# Altium footprint library gini_base_pcb.PCBLIB: 175 footprints (part 7 of 11)
Each footprint in its own frame and in the unit in brackets; x right, y up, seen from the top. Pads: shape width x height; smd on the part's side, far side on the other; paste and mask are expansions set on the pad; w line width, h text height; cw(c..) or ccw(c..) is an arc to the next point about the centre after c.
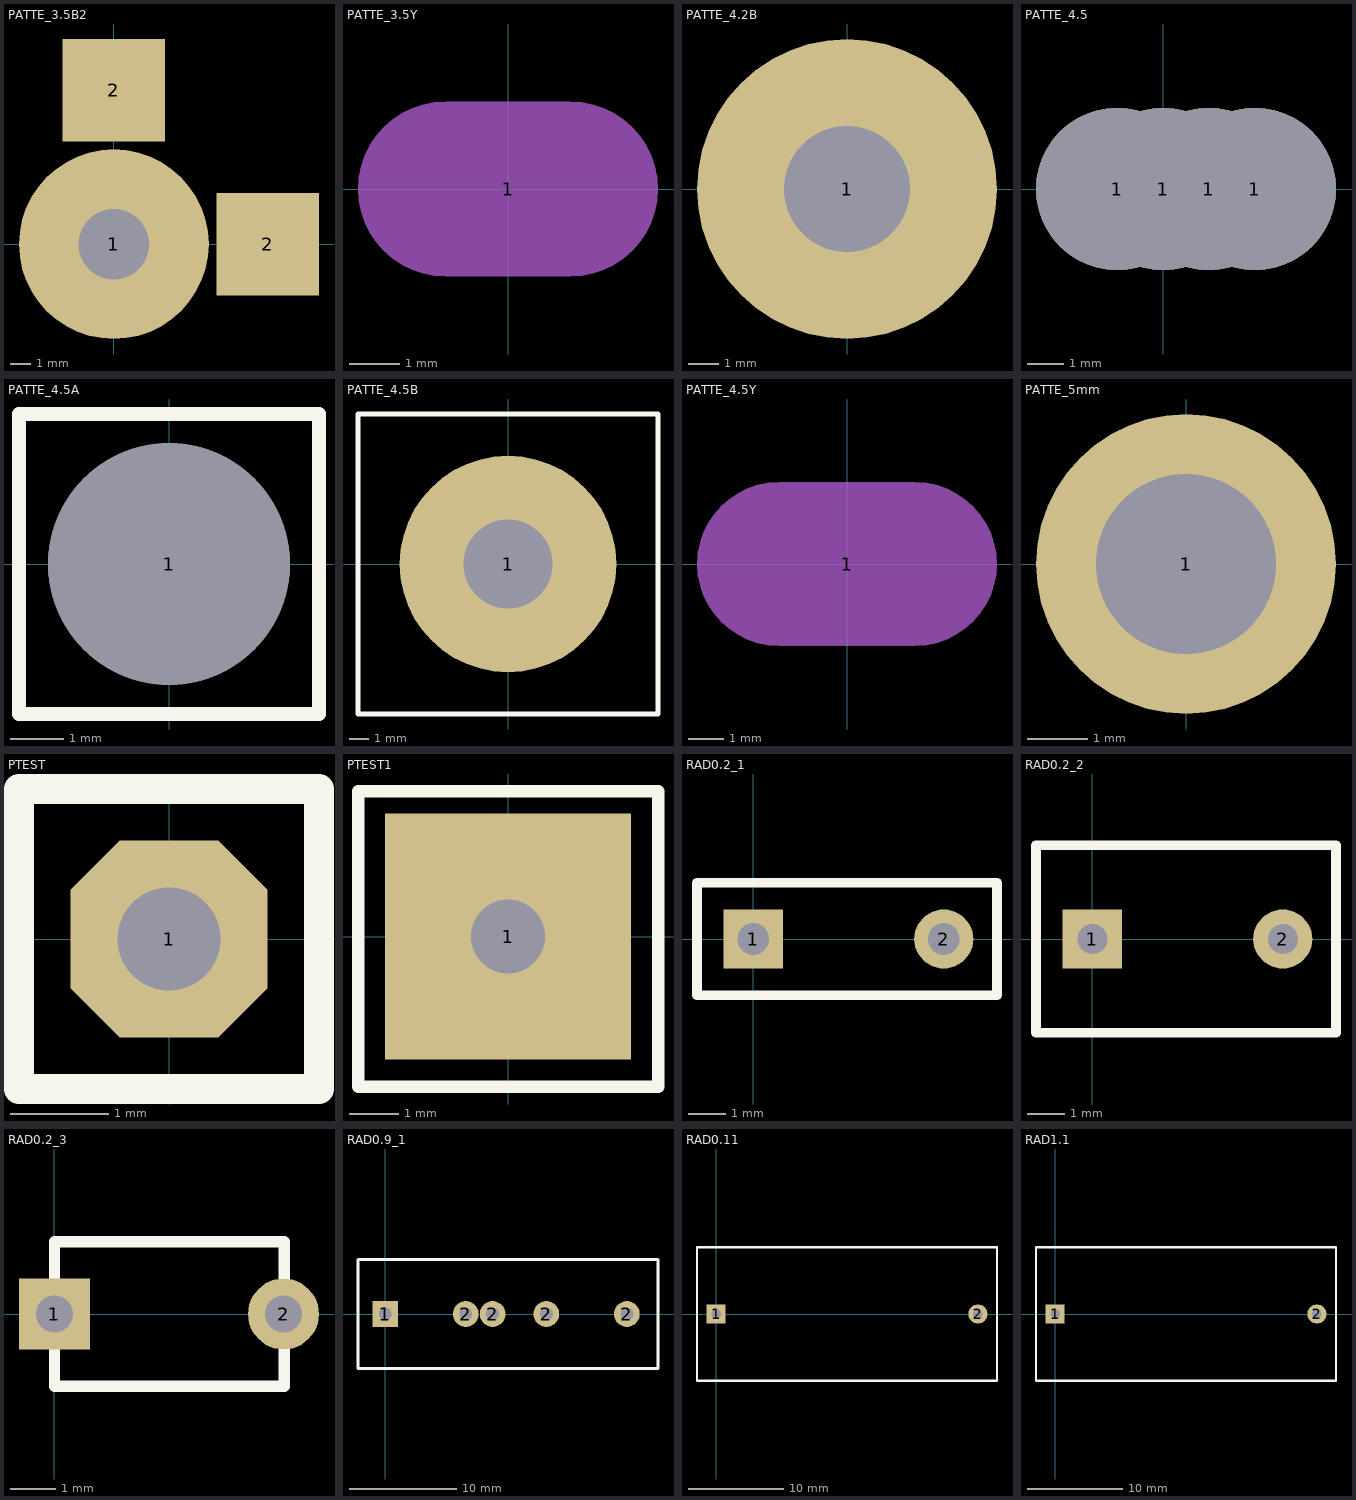
[diagram p6: the footprints below, top view; thin cyan lines are the x and y axes]

## PATTE_3.5B2 [mm]
pads (3):
  round 9.4 hole 3.5: 1(0,0)
  rect 5.08x5.08 smd: 2(0,7.62) 2(7.62,0)

## PATTE_3.5Y [mm]
pads (1):
  oval 6x3.5 on Mech1: 1(0,0)

## PATTE_4.2B [mm]
pads (1):
  round 10 hole 4.2: 1(0,0)

## PATTE_4.5 [mm]
pads (4):
  round 4.5 hole 4.5: 1(-1.27,0) 1(0,0) 1(1.27,0) 1(2.54,0)

## PATTE_4.5A [mm]
pads (1):
  round 4.5 hole 4.5: 1(0,0)
TopOverlay:
  lines w0.254: -2.794,-2.794 -2.794,2.794 2.794,2.794 2.794,-2.794 -2.794,-2.794

## PATTE_4.5B [mm]
pads (1):
  round 11 hole 4.5: 1(0,0)
TopOverlay:
  lines w0.254: -7.62,-7.62 7.62,-7.62 7.62,7.62 -7.62,7.62 -7.62,-7.62

## PATTE_4.5Y [mm]
pads (1):
  oval 8.4x4.6 on Mech1: 1(0,0)

## PATTE_5mm [mm]
pads (1):
  round 5 hole 3: 1(0,0)

## PTEST [mm]
pads (1):
  oct 2x2 hole 1.05: 1(0,0)
TopOverlay:
  lines w0.305: -1.524,-1.524 -1.524,1.524 1.524,1.524 1.524,-1.524 -1.524,-1.524
3D body: height 4.89, standoff -3.07, extent -1.27,-1.27 1.27,1.27

## PTEST1 [mm]
pads (1):
  rect 5x5 hole 1.5: 1(0,0)
TopOverlay:
  lines w0.254: -3.048,-3.048 -3.048,2.952 3.048,2.952 3.048,-3.048 -3.048,-3.048

## RAD0.2_1 [mil]
pads (2):
  rect 62x62 hole 33.46: 1(0,0)
  round 62 hole 33.46: 2(200,0)
TopOverlay:
  lines w10: -59.06,-59.06 -59.06,59.06 255.91,59.06 255.91,-59.06 -59.06,-59.06
3D body: height 299.21, standoff -181.1, extent -47.63,-49.21 247.64,49.22

## RAD0.2_2 [mil]
pads (2):
  rect 62x62 hole 31.5: 1(0,0)
  round 62 hole 31.5: 2(200,0)
TopOverlay:
  lines w10: -59.06,-98.42 -59.06,98.42 255.91,98.42 255.91,-98.42 -59.06,-98.42

## RAD0.2_3 [mil]
pads (2):
  rect 62x62 hole 32: 1(0,0)
  round 62 hole 32: 2(200,0)
TopOverlay:
  lines w10: 0,-62.99 200.79,-62.99 200.79,62.99 0,62.99 0,-62.99

## RAD0.9_1 [mm]
pads (5):
  rect 2.4x2.4 hole 1.2: 1(0,0)
  round 2.4 hole 1.2: 2(7.5,0) 2(10,0) 2(15,0) 2(22.5,0)
TopOverlay:
  lines w0.254: -2.54,-5.08 -2.54,5.08 25.4,5.08 25.4,-5.08 -2.54,-5.08

## RAD0.11 [mm]
height 21.5
pads (2):
  rect 2x2 hole 1: 1(0,0)
  round 2 hole 1: 2(27.5,0)
TopOverlay:
  lines w0.254: -2,-7 29.5,-7 29.5,7 -2,7 -2,-7

## RAD1.1 [mm]
pads (2):
  rect 2x2 hole 1: 1(0,0)
  round 2 hole 1: 2(27.5,0)
TopOverlay:
  lines w0.254: -2,-7 -2,7 29.5,7 29.5,-7 -2,-7